# Altium footprint library TSSOP16-SPE-ADS1146.PcbLib: 1 footprints
Each footprint in its own frame and in the unit in brackets; x right, y up, seen from the top. Pads: shape width x height; smd on the part's side, far side on the other; paste and mask are expansions set on the pad; w line width, h text height; cw(c..) or ccw(c..) is an arc to the next point about the centre after c.
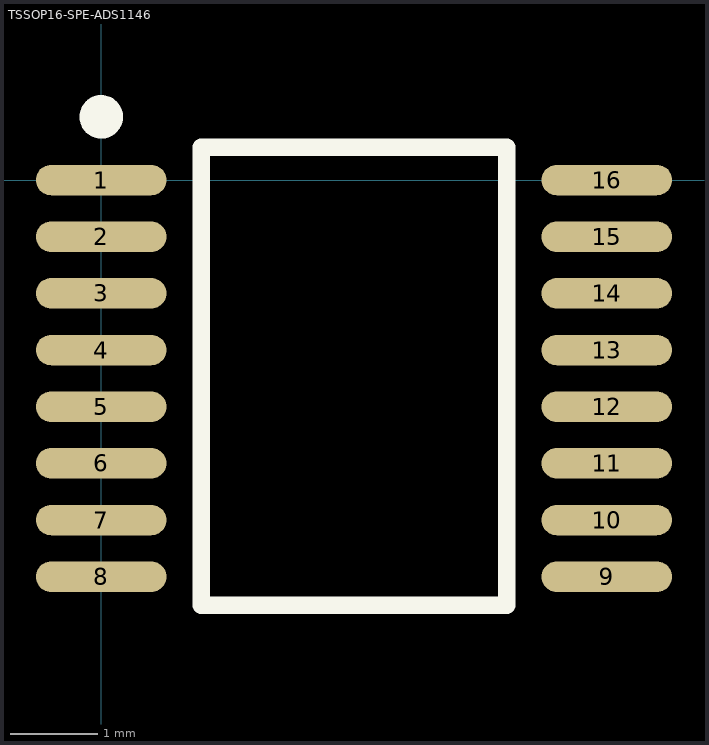
[diagram p0: the footprint, top view; thin cyan lines are the x and y axes]

## TSSOP16-SPE-ADS1146 [mm]
height 1.2
pads (16):
  oval 1.5x0.35 smd: 1(0,0) 2(0,-0.65) 3(0,-1.3) 4(0,-1.95) 5(0,-2.6) 6(0,-3.25) 7(0,-3.9) 8(0,-4.55) 9(5.8,-4.55) 10(5.8,-3.9) 11(5.8,-3.25) 12(5.8,-2.6) 13(5.8,-1.95) 14(5.8,-1.3) 15(5.8,-0.65) 16(5.8,0)
Top Overlay:
  circle w0.25: c0,0.725 r0.125
  lines w0.2: 1.15,-4.877 4.65,-4.877 4.65,0.375 1.15,0.375 1.15,-4.877
3D body: height 1.09, standoff 0, extent -0.27,-4.775 6.01,0.225